# Altium footprint library DC2R019JA7R1700.PcbLib: 1 footprints
Each footprint in its own frame and in the unit in brackets; x right, y up, seen from the top. Pads: shape width x height; smd on the part's side, far side on the other; paste and mask are expansions set on the pad; w line width, h text height; cw(c..) or ccw(c..) is an arc to the next point about the centre after c.
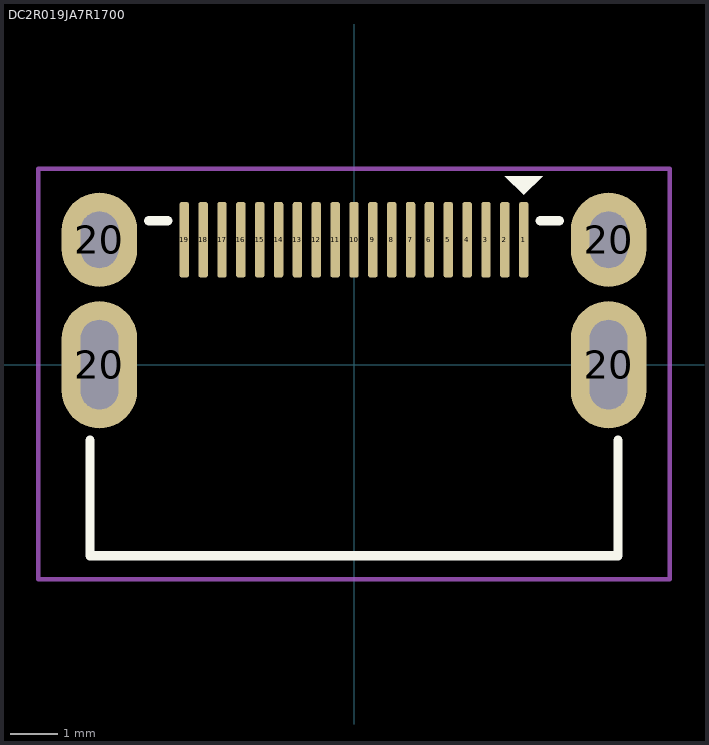
[diagram p0: the footprint, top view; thin cyan lines are the x and y axes]

## DC2R019JA7R1700 [mm]
pads (23):
  rrect50% 0.2x1.6 smd: 1(3.6,2.65) 2(3.2,2.65) 3(2.8,2.65) 4(2.4,2.65) 5(2,2.65) 6(1.6,2.65) 7(1.2,2.65) 8(0.8,2.65) 9(0.4,2.65) 10(0,2.65) 11(-0.4,2.65) 12(-0.8,2.65) 13(-1.2,2.65) 14(-1.6,2.65) 15(-2,2.65) 16(-2.4,2.65) 17(-2.8,2.65) 18(-3.2,2.65) 19(-3.6,2.65)
  oval 1.6x2.7 hole 0.8 slot 1.9 at 90 deg: 20(-5.4,0) 20(5.4,0)
  oval 1.6x2 hole 0.8 slot 1.2 at 90 deg: 20(-5.4,2.65) 20(5.4,2.65)
Top Overlay:
  region: 3.2,4 4,4 3.6,3.6
  lines w0.2: -5.6,-1.6 -5.6,-4.05 5.6,-4.05 5.6,-1.6 ; -4.35,3.05 -3.95,3.05 ; 3.95,3.05 4.35,3.05
Top Courtyard:
  lines w0.1: -6.7,-4.55 6.7,-4.55 6.7,4.155 -5.399,4.155 -6.7,4.155 -6.7,-4.55
3D body "DC2R019JA7R1700--3DModel-STEP-510211.STEP": height 3.3, standoff -0.9, extent -5.6,-4.05 5.6,3.05